# Altium footprint library FC20-N.PcbLib: 1 footprints
Each footprint in its own frame and in the unit in brackets; x right, y up, seen from the top. Pads: shape width x height; smd on the part's side, far side on the other; paste and mask are expansions set on the pad; w line width, h text height; cw(c..) or ccw(c..) is an arc to the next point about the centre after c.
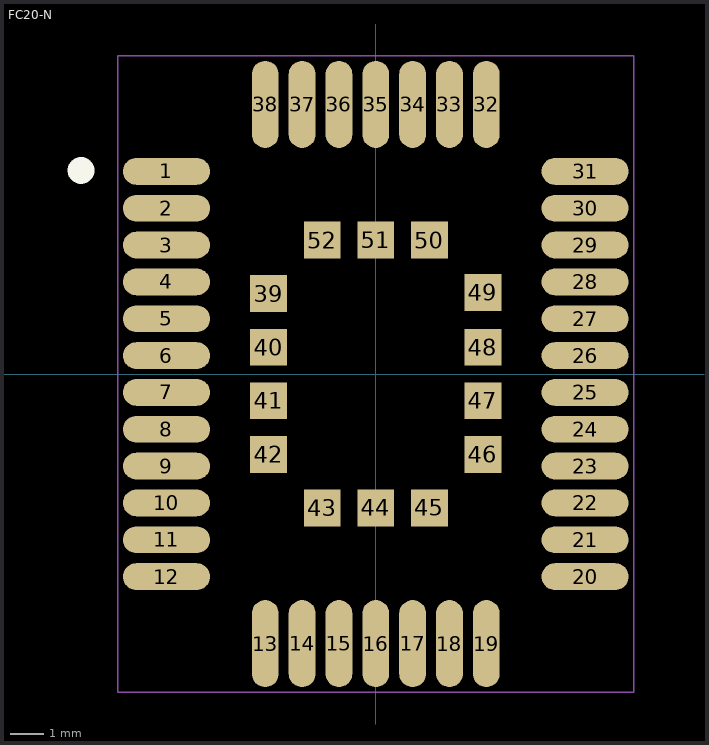
[diagram p0: the footprint, top view; thin cyan lines are the x and y axes]

## FC20-N [mm]
pads (52):
  oval 2.6x0.8 smd: 1(-6.25,6.05) 2(-6.25,4.95) 3(-6.25,3.85) 4(-6.25,2.75) 5(-6.25,1.65) 6(-6.25,0.55) 7(-6.25,-0.55) 8(-6.25,-1.65) 9(-6.25,-2.75) 10(-6.25,-3.85) 11(-6.25,-4.95) 12(-6.25,-6.05) 20(6.25,-6.05) 21(6.25,-4.95) 22(6.25,-3.85) 23(6.25,-2.75) 24(6.25,-1.65) 25(6.25,-0.55) 26(6.25,0.55) 27(6.25,1.65) 28(6.25,2.75) 29(6.25,3.85) 30(6.25,4.95) 31(6.25,6.05)
  oval 0.8x2.6 smd: 13(-3.3,-8.05) 14(-2.2,-8.05) 15(-1.1,-8.05) 16(0,-8.05) 17(1.1,-8.05) 18(2.2,-8.05) 19(3.3,-8.05) 32(3.3,8.05) 33(2.2,8.05) 34(1.1,8.05) 35(0,8.05) 36(-1.1,8.05) 37(-2.2,8.05) 38(-3.3,8.05)
  rect 1.1x1.1 smd: 39(-3.2,2.4) 40(-3.2,0.8) 41(-3.2,-0.8) 42(-3.2,-2.4) 43(-1.6,-4) 44(0,-4) 45(1.6,-4) 46(3.2,-2.4) 47(3.2,-0.8) 48(3.2,0.8) 49(3.2,2.438) 50(1.6,4) 51(0,4) 52(-1.6,4)
Top Overlay:
  circle w0.4: c-8.802,6.077 r0.2
Mechanical 16:
  lines w0.05: -7.7,-9.5 -7.7,9.5 7.7,9.5 7.7,-9.5 -7.7,-9.5
3D body: height 2.1, standoff 0, extent -6.501,-8.3 6.501,8.3